# Altium footprint library CN_MSTBVA 2,5_2-G.PcbLib: 1 footprints
Each footprint in its own frame and in the unit in brackets; x right, y up, seen from the top. Pads: shape width x height; smd on the part's side, far side on the other; paste and mask are expansions set on the pad; w line width, h text height; cw(c..) or ccw(c..) is an arc to the next point about the centre after c.
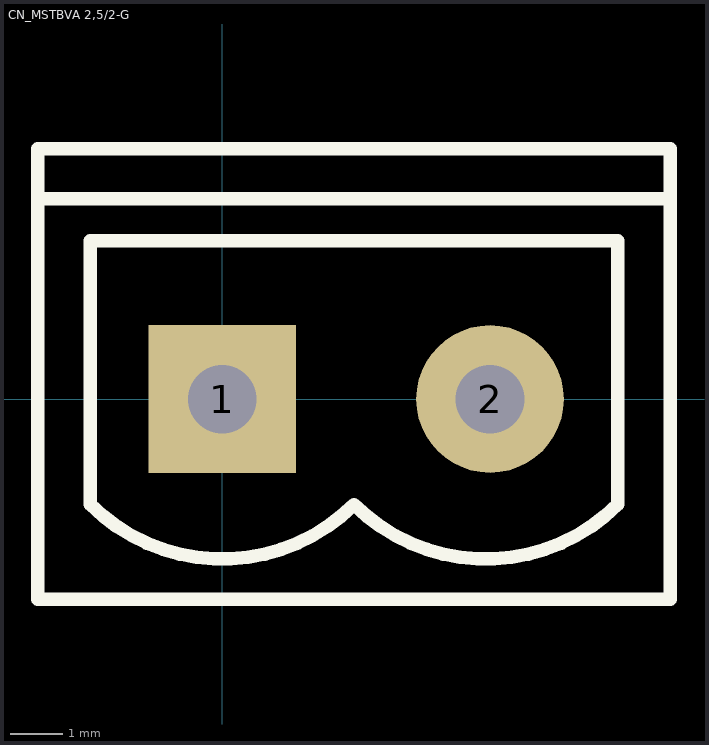
[diagram p0: the footprint, top view; thin cyan lines are the x and y axes]

## CN_MSTBVA 2,5/2-G [mm] "eader, Nominal current: 12 A, Rated voltage (III/2): 320 V, Number of positions: 2, Pitch: 5.08 mm, Color: green, Contact surface: Tin, Assembly: Soldering"
pads (2):
  rect 2.8x2.8 hole 1.3: 1(0,0)
  round 2.8 hole 1.3: 2(5.08,0)
Top Overlay:
  lines w0.254: -3.5,3.8 -3.5,-3.8 8.5,-3.8 8.5,3.8 ; -3.5,3.8 8.5,3.8 ; -3.5,3.8 -3.5,4.75 8.5,4.75 8.5,3.8 ; -2.5,-2 ccw(c0,0.5) 2.5,-2 ccw(c5,0.5) 7.5,-2 7.5,3 -2.5,3 -2.5,-2
3D body: height 12, standoff -3.9, extent -3.54,-3.8 8.62,4.8